# EAGLE library part MSP430_1 (library QuantumOptics)
MSP430G2x53/13, 20-pin version only, 3 ports (not all visible), ADCs, DACs, comparator, multiple clocks, timers, UART, ultra low power modes, etc
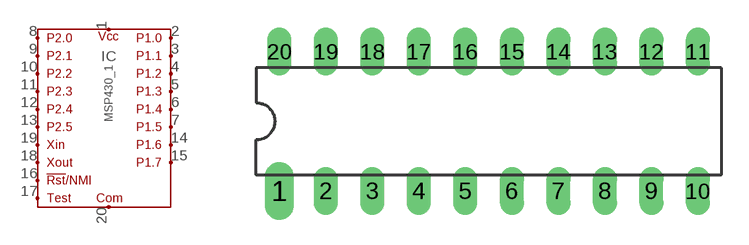
[diagram p190: symbol with the pads of DIL20; footprint DIL20]

Designator prefix IC

## MSP430_1-DIP20  [DIL20]
1  VCC
2  P1.0
3  P1.1
4  P1.2
5  P1.3
6  P1.4
7  P1.5
8  P2.0
9  P2.1
10  P2.2
11  P2.3
12  P2.4
13  P2.5
14  P1.6
15  P1.7
16  !RST!/NMI
17  TEST
18  XOUT
19  XIN
20  VSS

## Footprint DIL20 (pad centres in mm)
DIP-20, AKA DIL-20. Antique.
drill 0.813 pad 1.575 long: 1 -11.43,-3.81
drill 0.813 long: 2 -8.89,-3.81; 3 -6.35,-3.81; 4 -3.81,-3.81; 5 -1.27,-3.81; 6 1.27,-3.81; 7 3.81,-3.81; 8 6.35,-3.81; 9 8.89,-3.81; 10 11.43,-3.81; 11 11.43,3.81; 12 8.89,3.81; 13 6.35,3.81; 14 3.81,3.81; 15 1.27,3.81; 16 -1.27,3.81; 17 -3.81,3.81; 18 -6.35,3.81; 19 -8.89,3.81; 20 -11.43,3.81